# EAGLE library part DS-1013-20 (library IDC)
Вилка на плату прямая/угловая 20 конт. 2.54мм https://www.chipdip.ru/product/idc-20ms <https://www.chipdip.ru/product/idc-10ms> https://www.chipdip.ru/product/idc-20mr <https://www.chipdip.ru/product/idc-10mr>
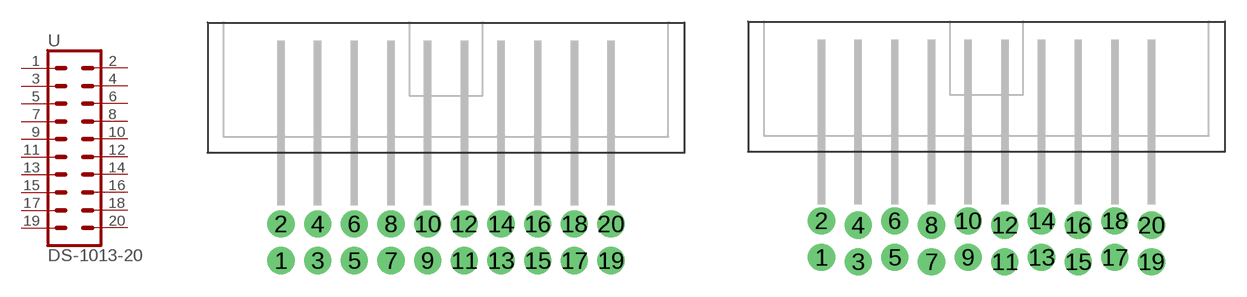
[diagram p1: symbol with the pads of DS1013-20R; footprints DS1013-20R, DS1013-20R-LOCK]

Designator prefix -

## DS-1013-20  [DS1013-20R]
1  1  pas
2  2  pas
3  3  pas
4  4  pas
5  5  pas
6  6  pas
7  7  pas
8  8  pas
9  9  pas
10  10  pas
11  11  pas
12  12  pas
13  13  pas
14  14  pas
15  15  pas
16  16  pas
17  17  pas
18  18  pas
19  19  pas
20  20  pas

## DS-1013-20LOCK  [DS1013-20R-LOCK]
Pads as for DS1013-20R

## Footprint DS1013-20R (pad centres in mm)
BH-20R (DS1013-20R) (IDC-20MR), Вилка на плату угловая 20 конт. 2.54мм https://www.chipdip.ru/product/idc-20mr Этот футпринт "заклинивает" ножки разъема,что очень удобно при пайке
drill 1.016 pad 1.88: 1 -11.43,-1.27; 2 -11.43,1.27; 3 -8.89,-1.27; 4 -8.89,1.27; 5 -6.35,-1.27; 6 -6.35,1.27; 7 -3.81,-1.27; 8 -3.81,1.27; 9 -1.27,-1.27; 10 -1.27,1.27; 11 1.27,-1.27; 12 1.27,1.27; 13 3.81,-1.27; 14 3.81,1.27; 15 6.35,-1.27; 16 6.35,1.27; 17 8.89,-1.27; 18 8.89,1.27; 19 11.43,-1.27; 20 11.43,1.27

## Footprint DS1013-20R-LOCK (pad centres in mm)
BH-20R (DS1013-20R) (IDC-20MR), Вилка на плату угловая 20 конт. 2.54мм https://www.chipdip.ru/product/idc-20mr Этот футпринт "заклинивает" ножки разъема,что очень удобно при пайке
drill 1.016 pad 1.88: 1 -11.43,-1.118; 2 -11.43,1.422; 3 -8.89,-1.422; 4 -8.89,1.118; 5 -6.35,-1.118; 6 -6.35,1.422; 7 -3.81,-1.422; 8 -3.81,1.118; 9 -1.27,-1.118; 10 -1.27,1.422; 11 1.27,-1.422; 12 1.27,1.118; 13 3.81,-1.118; 14 3.81,1.422; 15 6.35,-1.422; 16 6.35,1.118; 17 8.89,-1.118; 18 8.89,1.422; 19 11.43,-1.422; 20 11.43,1.118